# EAGLE library part PIC18F*2 (library microchip-update)
High-Performance, Enhanced Flash Microcontrollers with 10-Bit A/D Source: http://www.microchip.com .. 39564c.pdf
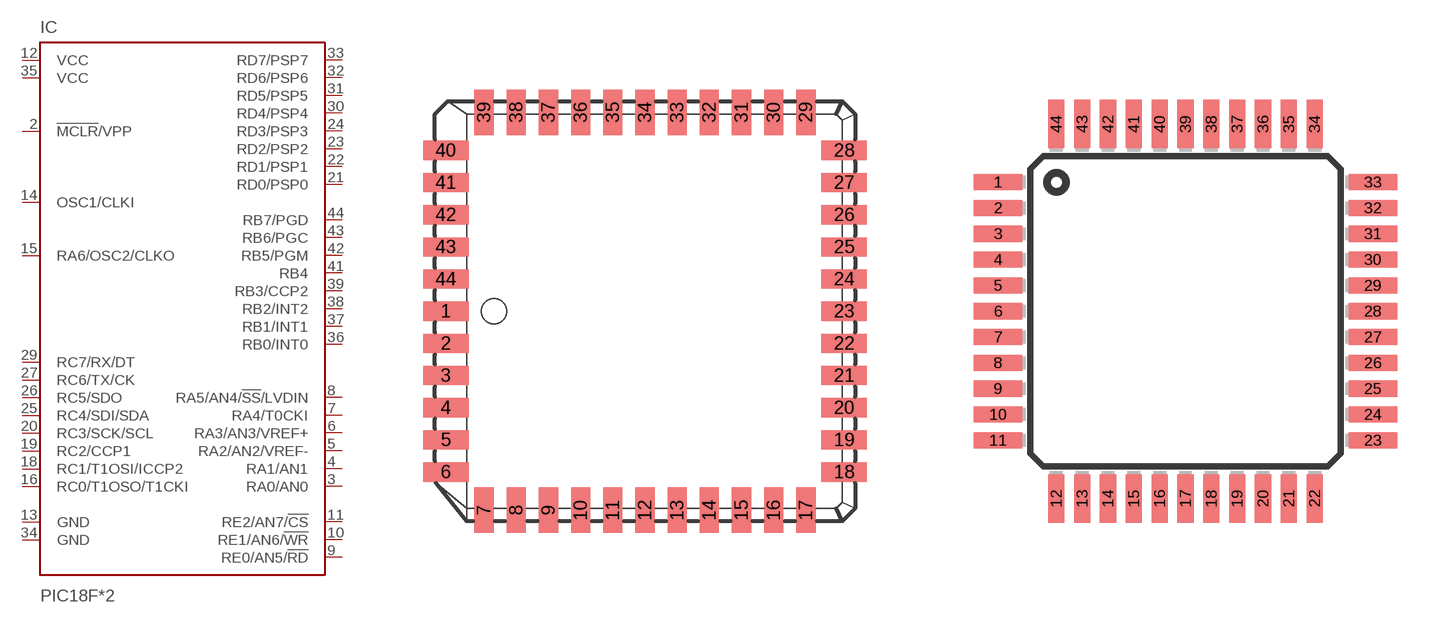
[diagram p86: symbol with the pads of PLCC-44; footprints PLCC-44, TQFP44]

Designator prefix IC

## PIC18F442L, PIC18F452L  [PLCC-44]
1  NC  nc
2  !MCLR!/VPP  in
3  RA0/AN0
4  RA1/AN1
5  RA2/AN2/VREF-
6  RA3/AN3/VREF+
7  RA4/T0CKI
8  RA5/AN4/!SS!/LVDIN
9  RE0/AN5/!RD
10  RE1/AN6/!WR
11  RE2/AN7/!CS
12  VCC  pwr
13  GND  pwr
14  OSC1/CLKI  in
15  RA6/OSC2/CLKO  out
16  RC0/T1OSO/T1CKI
17  NC  nc
18  RC1/T1OSI/ICCP2
19  RC2/CCP1
20  RC3/SCK/SCL
21  RD0/PSP0
22  RD1/PSP1
23  RD2/PSP2
24  RD3/PSP3
25  RC4/SDI/SDA
26  RC5/SDO
27  RC6/TX/CK
28  NC  nc
29  RC7/RX/DT
30  RD4/PSP4
31  RD5/PSP5
32  RD6/PSP6
33  RD7/PSP7
34  GND  pwr
35  VCC  pwr
36  RB0/INT0
37  RB1/INT1
38  RB2/INT2
39  RB3/CCP2
40  NC  nc
41  RB4
42  RB5/PGM
43  RB6/PGC
44  RB7/PGD

## PIC18F442PT, PIC18F452PT  [TQFP44]
1  RC7/RX/DT
2  RD4/PSP4
3  RD5/PSP5
4  RD6/PSP6
5  RD7/PSP7
6  GND  pwr
7  VCC  pwr
8  RB0/INT0
9  RB1/INT1
10  RB2/INT2
11  RB3/CCP2
12  NC  nc
13  NC  nc
14  RB4
15  RB5/PGM
16  RB6/PGC
17  RB7/PGD
18  !MCLR!/VPP  in
19  RA0/AN0
20  RA1/AN1
21  RA2/AN2/VREF-
22  RA3/AN3/VREF+
23  RA4/T0CKI
24  RA5/AN4/!SS!/LVDIN
25  RE0/AN5/!RD
26  RE1/AN6/!WR
27  RE2/AN7/!CS
28  VCC  pwr
29  GND  pwr
30  OSC1/CLKI  in
31  RA6/OSC2/CLKO  out
32  RC0/T1OSO/T1CKI
33  NC  nc
34  NC  nc
35  RC1/T1OSI/ICCP2
36  RC2/CCP1
37  RC3/SCK/SCL
38  RD0/PSP0
39  RD1/PSP1
40  RD2/PSP2
41  RD3/PSP3
42  RC4/SDI/SDA
43  RC5/SDO
44  RC6/TX/CK

## Footprint PLCC-44 (pad centres in mm)
PLASTIC LEADED CHIP CARRIER square, package type L
smd 1.8 x 0.76: 1 -7.86,0; 2 -7.86,-1.27; 3 -7.86,-2.54; 4 -7.86,-3.81; 5 -7.86,-5.08; 6 -7.86,-6.35; 18 7.86,-6.35; 19 7.86,-5.08; 20 7.86,-3.81; 21 7.86,-2.54; 22 7.86,-1.27; 23 7.86,0; 24 7.86,1.27; 25 7.86,2.54; 26 7.86,3.81; 27 7.86,5.08; 28 7.86,6.35; 40 -7.86,6.35; 41 -7.86,5.08; 42 -7.86,3.81; 43 -7.86,2.54; 44 -7.86,1.27
smd 0.76 x 1.8: 7 -6.35,-7.86; 8 -5.08,-7.86; 9 -3.81,-7.86; 10 -2.54,-7.86; 11 -1.27,-7.86; 12 0,-7.86; 13 1.27,-7.86; 14 2.54,-7.86; 15 3.81,-7.86; 16 5.08,-7.86; 17 6.35,-7.86; 29 6.35,7.86; 30 5.08,7.86; 31 3.81,7.86; 32 2.54,7.86; 33 1.27,7.86; 34 0,7.86; 35 -1.27,7.86; 36 -2.54,7.86; 37 -3.81,7.86; 38 -5.08,7.86; 39 -6.35,7.86

## Footprint TQFP44 (pad centres in mm)
Thin Quad Flat Pack package type TQ
smd 1.5 x 0.5: 1 -5.8,4; 2 -5.8,3.2; 3 -5.8,2.4; 4 -5.8,1.6; 5 -5.8,0.8; 6 -5.8,0; 7 -5.8,-0.8; 8 -5.8,-1.6; 9 -5.8,-2.4; 10 -5.8,-3.2; 11 -5.8,-4; 23 5.8,-4; 24 5.8,-3.2; 25 5.8,-2.4; 26 5.8,-1.6; 27 5.8,-0.8; 28 5.8,0; 29 5.8,0.8; 30 5.8,1.6; 31 5.8,2.4; 32 5.8,3.2; 33 5.8,4
smd 0.5 x 1.5: 12 -4,-5.8; 13 -3.2,-5.8; 14 -2.4,-5.8; 15 -1.6,-5.8; 16 -0.8,-5.8; 17 0,-5.8; 18 0.8,-5.8; 19 1.6,-5.8; 20 2.4,-5.8; 21 3.2,-5.8; 22 4,-5.8; 34 4,5.8; 35 3.2,5.8; 36 2.4,5.8; 37 1.6,5.8; 38 0.8,5.8; 39 0,5.8; 40 -0.8,5.8; 41 -1.6,5.8; 42 -2.4,5.8; 43 -3.2,5.8; 44 -4,5.8